# EAGLE library part LM73CIMK-0 (library LM73CIMK-0)
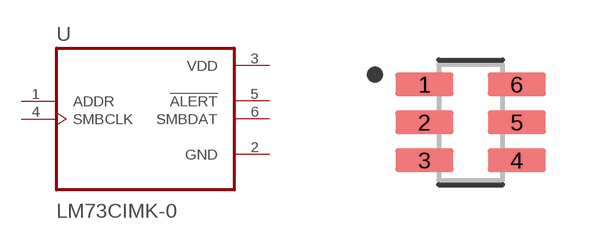
[diagram p0: symbol with the pads of SOT95P280X110-6N; footprint SOT95P280X110-6N]

Designator prefix U

## LM73CIMK-0 (Description: Temperature Sensor Digital, Local -40°C ~ 150°C 13 b TSOT-23-6; Digi-Key_Part_Number: LM73CIMK-0/NOPBCT-ND; MF: Texas Instruments; MP: LM73CIMK-0; Package: SOT-23 Texas Instruments)  [SOT95P280X110-6N]
1  ADDR  in
2  GND  pwr
3  VDD  pwr
4  SMBCLK  in
5  !ALERT  out
6  SMBDAT  out

## Footprint SOT95P280X110-6N (pad centres in mm)
smd 1.45 x 0.59: 1 -1.155,0.95; 2 -1.155,0; 3 -1.155,-0.95; 4 1.155,-0.95; 5 1.155,0; 6 1.155,0.95